# EAGLE library part AD5160 (library lowfieldmri)
AD5160 Digipot (256-Position, SPI-Compatible)
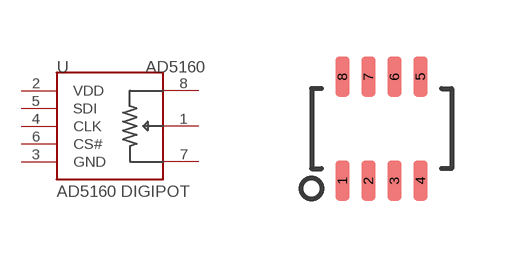
[diagram p4: symbol with the pads of SOT-23-8; footprint SOT-23-8]

Designator prefix -

## AD5160  [SOT-23-8]
1  W
2  VDD
3  GND
4  CLK
5  SDI
6  CS#
7  B
8  A

## Footprint SOT-23-8 (pad centres in mm)
smd 0.35 x 1: 1 -0.975,-1.3; 2 -0.325,-1.3; 3 0.325,-1.3; 4 0.975,-1.3; 5 0.975,1.3; 6 0.325,1.3; 7 -0.325,1.3; 8 -0.975,1.3